# Altium footprint library SN75179BD.pcblib: 1 footprints
Each footprint in its own frame and in the unit in brackets; x right, y up, seen from the top. Pads: shape width x height; smd on the part's side, far side on the other; paste and mask are expansions set on the pad; w line width, h text height; cw(c..) or ccw(c..) is an arc to the next point about the centre after c.
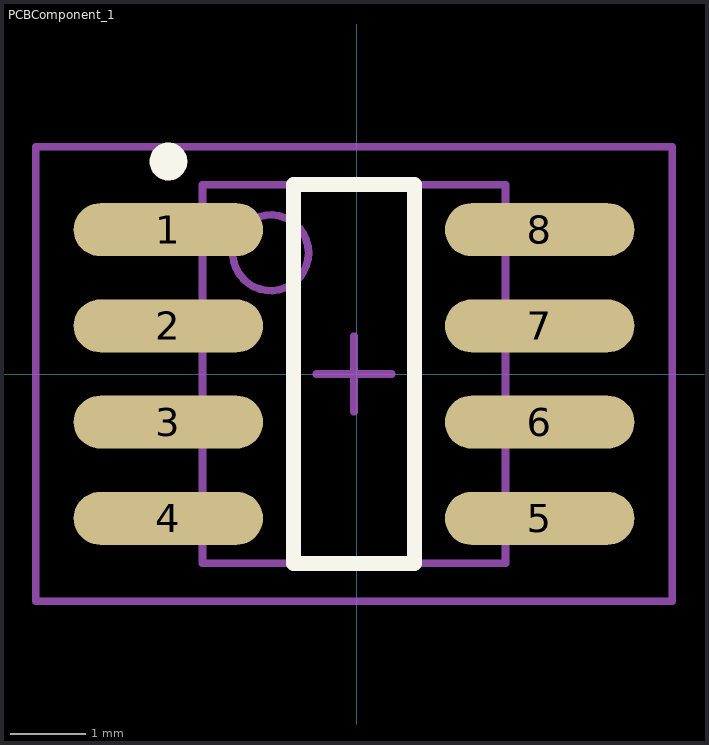
[diagram p0: the footprint, top view; thin cyan lines are the x and y axes]

## PCBComponent_1 [mm]
pads (8):
  oval 2.5x0.7 smd: 1(-2.487,1.905) 2(-2.487,0.635) 3(-2.487,-0.635) 4(-2.487,-1.905) 5(2.413,-1.905) 6(2.413,-0.635) 7(2.413,0.635) 8(2.413,1.905)
Top Overlay:
  circle w0.25: c-2.487,2.805 r0.125
  lines w0.2: -0.837,-2.5 -0.837,2.5 0.763,2.5 0.763,-2.5 -0.837,-2.5
Mechanical 13:
  circle w0.1: c-1.137,1.6 r0.5
  lines w0.1: -2.037,-2.5 -2.037,2.5 1.963,2.5 1.963,-2.5 -2.037,-2.5
Mechanical 15:
  lines w0.1: -0.537,0 0.463,0 ; -0.037,-0.5 -0.037,0.5 ; -4.237,-3 -4.237,3 4.163,3 4.163,-3 -4.237,-3
3D body: height 1.75, standoff 0, extent -2.037,-2.5 1.963,2.5